# Altium footprint library AG.Passives.PcbLib: 23 footprints (part 1 of 2)
Each footprint in its own frame and in the unit in brackets; x right, y up, seen from the top. Pads: shape width x height; smd on the part's side, far side on the other; paste and mask are expansions set on the pad; w line width, h text height; cw(c..) or ccw(c..) is an arc to the next point about the centre after c.
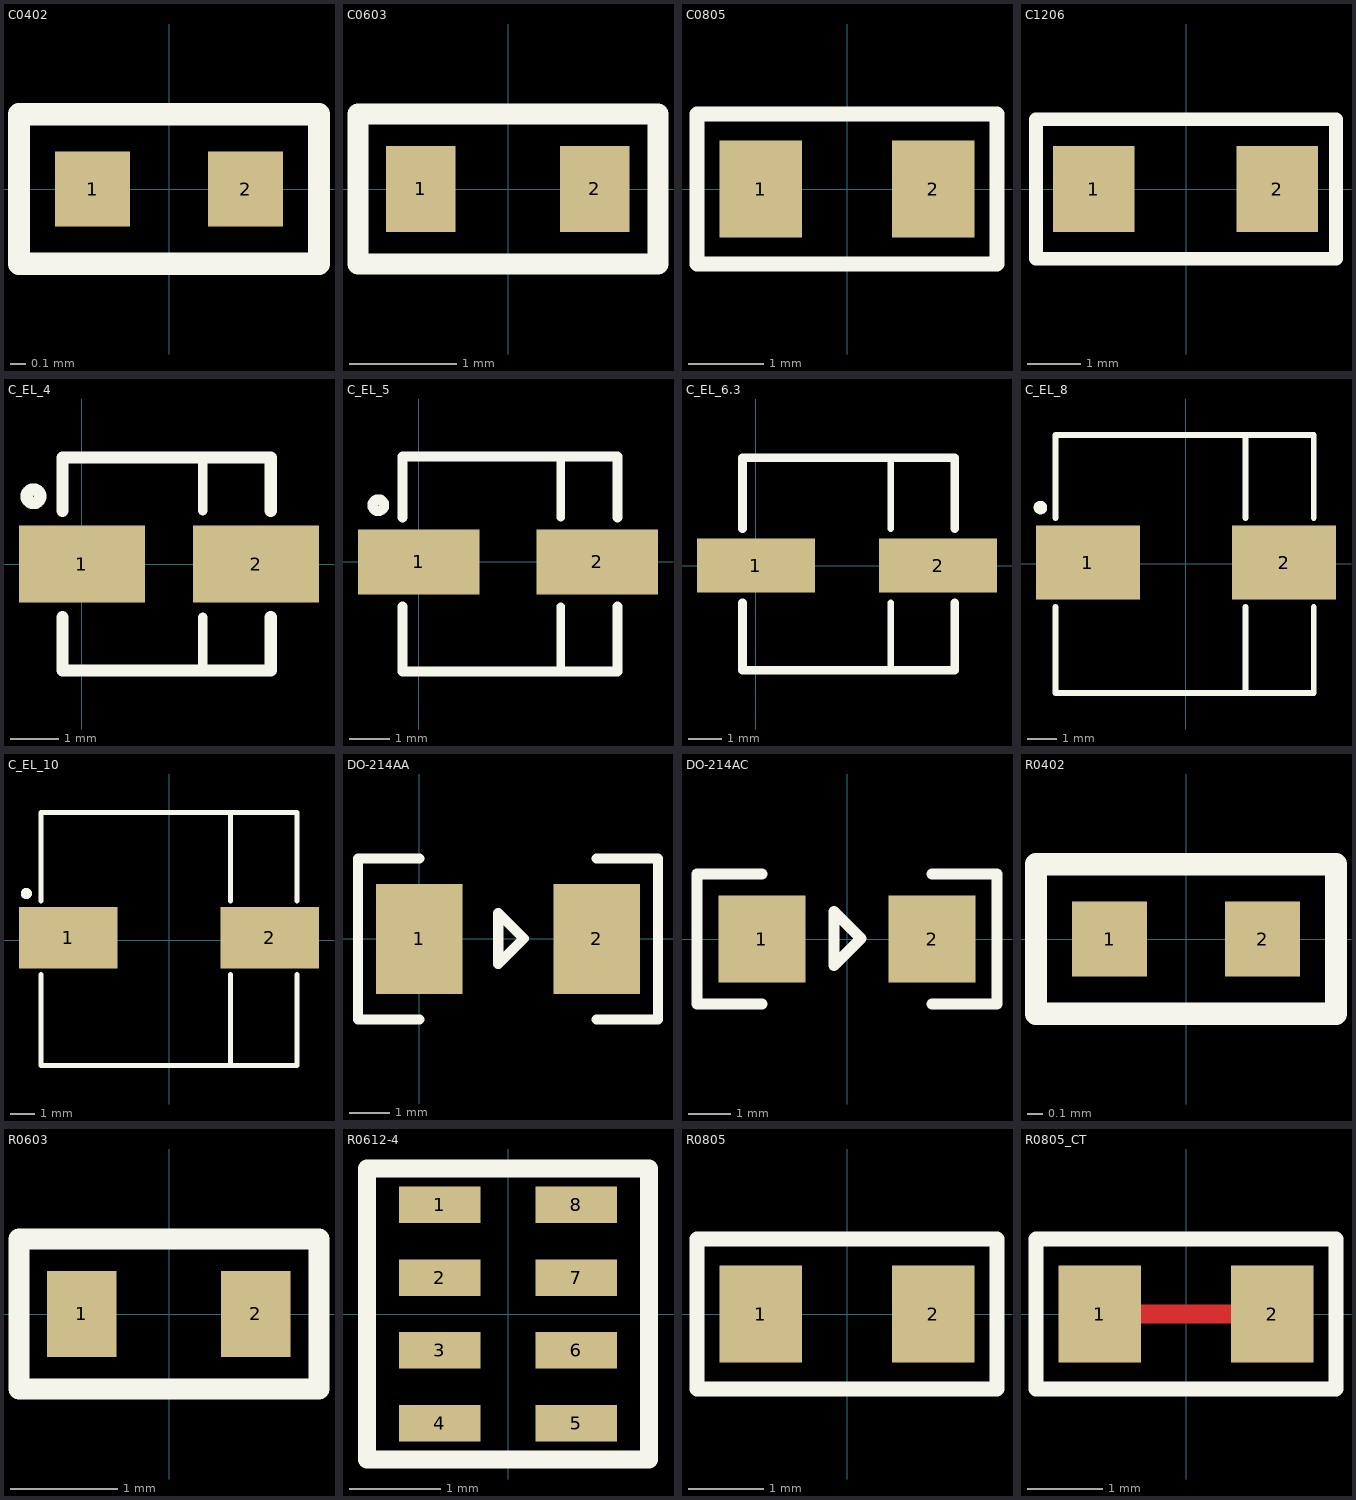
[diagram p0: the footprints below, top view; thin cyan lines are the x and y axes]

## C0402 [mm] "Chip Capacitor 0402"
pads (2):
  rect 0.5x0.5 smd: 1(-0.51,0) 2(0.51,0)
Top Overlay:
  lines w0.15: -1,-0.5 1,-0.5 1,0.5 -1,0.5 -1,-0.5
3D body "User Library-0402C.step": height 0.36, standoff 0, extent -0.5,-0.275 0.5,0.255

## C0603 [mm] "Chip Capacitor 0603"
pads (2):
  rect 0.65x0.8 smd: 1(-0.815,0) 2(0.81,0)
Top Overlay:
  lines w0.2: -1.4,-0.7 1.4,-0.7 1.4,0.7 -1.4,0.7 -1.4,-0.7
3D body "User Library-Chip Cap_MLCC_0603 (1608).step": height 0.5, standoff 0, extent -0.8,-0.4 0.8,0.4

## C0805 [mm] "Chip Capacitor 0805"
pads (2):
  rect 1.1x1.3 smd: 1(-1.15,0) 2(1.15,0)
Top Overlay:
  lines w0.2: -2,-1 2,-1 2,1 -2,1 -2,-1
3D body: height 0.7, standoff 0, extent -0.5,-0.625 0.5,0.625
3D body: height 0.7, standoff 0, extent -1,-0.625 -0.5,0.625
3D body: height 0.7, standoff 0, extent 0.5,-0.625 1,0.625

## C1206 [mm] "Chip Capacitor 1206"
pads (2):
  rect 1.52x1.6 smd: 1(-1.725,0) 2(1.7,0)
Top Overlay:
  lines w0.254: -2.8,-1.3 -2.8,1.3 2.8,1.3 2.8,-1.3 -2.8,-1.3
3D body "User Library-Chip Cap_MLCC_1206 (3216)_C.STEP": height 0.95, standoff 0, extent -1.6,-0.8 1.6,0.8

## C_EL_4 [mm]
pads (2):
  rect 2.6x1.6 smd: 1(0,0) 2(3.6,0)
Top Overlay:
  circle w0.254: c-1,1.4 r0.141
  lines w0.2: 2.5,-2.2 2.5,-1.1 ; 2.5,1.1 2.5,2.2
  lines w0.254: 3.9,-1.1 3.9,-2.2 -0.4,-2.2 -0.4,-1.1 ; 3.9,1.1 3.9,2.2 -0.4,2.2 -0.4,1.1 ; -0.4,-1.1 -0.4,-1.1 ; -0.4,1.1 -0.4,1.1
3D body "User Library-CAPSMD4x3_9.STEP": height 3.91, standoff 0, extent -0.55,-2.175 4.05,2.125

## C_EL_5 [mm]
pads (2):
  rect 3x1.6 smd: 1(0,0) 2(4.4,0)
Top Overlay:
  circle w0.254: c-1,1.4 r0.141
  lines w0.2: 3.5,-2.7 3.5,-1.1 ; 3.5,1.1 3.5,2.6
  lines w0.254: 4.9,-1.1 4.9,-2.7 -0.4,-2.7 -0.4,-1.1 ; 4.9,1.1 4.9,2.6 -0.4,2.6 -0.4,1.1 ; -0.4,-1.1 -0.4,-1.1 ; -0.4,1.1 -0.4,1.1
3D body "User Library-CAP SMD SVP 5_0x5_9.STEP": height 5.9, standoff 0, extent -0.8,-2.65 5.2,2.65

## C_EL_6.3 [mm]
pads (2):
  rect 3.5x1.6 smd: 1(0,0) 2(5.4,0)
Top Overlay:
  lines w0.2: 4,-3.1 4,-1.1 ; 4,1.1 4,3.2
  lines w0.254: -0.4,-1.1 -0.4,-3.1 5.9,-3.1 5.9,-1.1 ; -0.4,1.1 -0.4,3.2 5.9,3.2 5.9,1.1
3D body "User Library-CEL63D66S8H.STEP": height 7.9, standoff 0.2, extent -0.775,-3.3 6.225,3.3

## C_EL_8 [mm]
pads (2):
  rect 3.5x2.5 smd: 1(-3.3,0.05) 2(3.3,0.05)
Top Overlay:
  circle w0.254: c-4.9,1.9 r0.1
  lines w0.2: -4.4,-1.45 -4.4,-4.35 4.3,-4.35 4.3,-1.45 ; -4.4,1.55 -4.4,4.35 4.3,4.35 4.3,1.55 ; 2,-4.35 2,-1.45 ; 2,1.55 2,4.35
3D body "User Library-CAP SMD SVP 8_0x6_9.STEP": height 6.9, standoff 0, extent -4.5,-4.15 4.5,4.15

## C_EL_10 [mm]
pads (2):
  rect 4x2.5 smd: 1(-4.1,0.1) 2(4.1,0.1)
Top Overlay:
  circle w0.254: c-5.8,1.9 r0.1
  lines w0.2: -5.2,-1.4 -5.2,-5.1 5.2,-5.1 5.2,-1.4 ; -5.2,1.6 -5.2,5.2 5.2,5.2 5.2,1.6 ; 2.5,-5.1 2.5,-1.4 ; 2.5,1.6 2.5,5.2
3D body "User Library-CAP SMD SVP 10_0x12_6.STEP": height 12.6, standoff 0, extent -5.5,-5.15 5.5,5.15

## DO-214AA [mil] "DO-214AA (SMB) Diode"
height 90
pads (2):
  rect 85x108 smd: 1(0,0) 2(174,0)
Top Overlay:
  lines w10: 0,-79 -60,-79 -60,79 0,79 ; 174,-79 234,-79 234,79 174,79 ; 77.5,-24.5 102.5,0.5 77.5,25.5 77.5,-24.5

## DO-214AC [mil] "DO-214AC (SMA) Diode"
height 90
pads (2):
  rect 80x80 smd: 1(-78.5,0) 2(78.5,0)
Top Overlay:
  lines w10: -78.5,-60 -138.5,-60 -138.5,60 -78.5,60 ; 78.5,-60 138.5,-60 138.5,60 78.5,60 ; -12,-24.5 13,0.5 -12,25.5 -12,-24.5

## R0402 [mm] "Chip Resistor 0402"
pads (2):
  rect 0.5x0.5 smd: 1(-0.51,0) 2(0.51,0)
Top Overlay:
  lines w0.15: -1,-0.5 1,-0.5 1,0.5 -1,0.5 -1,-0.5
3D body "User Library-res0402-1.STEP": height 0.3, standoff 0, extent -0.5,-0.25 0.5,0.25

## R0603 [mm] "Chip Resistor 0603"
pads (2):
  rect 0.65x0.8 smd: 1(-0.815,0) 2(0.81,0)
Top Overlay:
  lines w0.2: -1.4,-0.7 -1.4,0.7 1.4,0.7 1.4,-0.7 -1.4,-0.7
3D body "User Library-Chip Resistor_0603 (1608).STEP": height 0.47, standoff 0, extent -0.8,-0.402 0.8,0.4

## R0612-4 [mm] "Chip Resistor Array (4 resistors)"
pads (8):
  rect 0.9x0.4 smd: 1(-0.75,1.2) 2(-0.75,0.4) 3(-0.75,-0.4) 4(-0.75,-1.2) 5(0.75,-1.2) 6(0.75,-0.4) 7(0.75,0.4) 8(0.75,1.2)
Top Overlay:
  lines w0.2: -1.55,-1.6 1.55,-1.6 1.55,1.6 -1.55,1.6 -1.55,-1.6
3D body "User Library-Array-1206-4Way-Var1.STEP": height 0.5, standoff 0, extent -0.8,-1.6 0.8,1.6

## R0805 [mm] "Chip Resistor 0805"
pads (2):
  rect 1.1x1.3 smd: 1(-1.15,0) 2(1.15,0)
Top Overlay:
  lines w0.2: -2,-1 -2,1 2,1 2,-1 -2,-1
3D body "User Library-CRS0805.STEP": height 0.5, standoff 0, extent -1,-0.625 1,0.625

## R0805_CT [mm] "Chip Resistor 0805 Cut Trace"
pads (2):
  rect 1.1x1.3 smd: 1(-1.15,0) 2(1.15,0)
Top Layer:
  lines w0.254: -1.15,0 1.15,0
Top Overlay:
  lines w0.2: -2,-1 -2,1 2,1 2,-1 -2,-1
3D body "User Library-CRS0805.STEP": height 0.5, standoff 0, extent -1,-0.625 1,0.625